# Altium footprint library IND_VLCF4020T.PcbLib: 1 footprints
Each footprint in its own frame and in the unit in brackets; x right, y up, seen from the top. Pads: shape width x height; smd on the part's side, far side on the other; paste and mask are expansions set on the pad; w line width, h text height; cw(c..) or ccw(c..) is an arc to the next point about the centre after c.
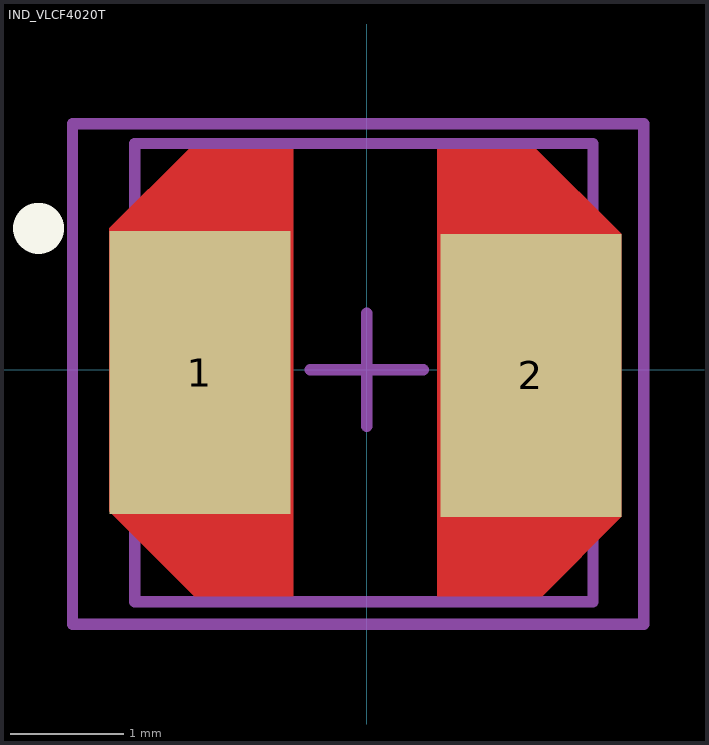
[diagram p0: the footprint, top view; thin cyan lines are the x and y axes]

## IND_VLCF4020T [mm]
pads (2):
  rect 1.6x2.5 smd: 1(-1.475,-0.025) 2(1.45,-0.05)
Top Layer:
  region: -2.275,1.25 -1.575,1.95 -0.65,1.95 -0.65,-2 -1.525,-2 -2.275,-1.25
  region: 0.625,1.95 0.625,-2 1.55,-2 2.25,-1.3 2.25,1.2 1.5,1.95
Top Overlay:
  circle w0.4: c-2.9,1.25 r0.025
Mechanical 13:
  lines w0.1: -2.05,-2.05 -2.05,2 2,2 2,-2.05 -2.05,-2.05
Mechanical 15:
  lines w0.1: -0.5,0 0.5,0 ; 0,-0.5 0,0.5 ; -2.6,-2.25 -2.6,2.175 2.45,2.175 2.45,-2.25 -2.6,-2.25
3D body: height 1.1, standoff 0, extent -2.05,-2.025 2,2.025